# Altium schematic symbol library TC2030-IDC Modified.SchLib: 1 symbol
Pins are listed as number, name and electrical type; pins without a type are passive.

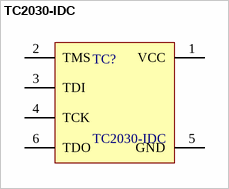
[diagram p0: symbol TC2030-IDC]

## TC2030-IDC
designator TC?
PLUG-OF-NAILS 6-PIN W/ LEGS 8; MF: Tag-Connect LLC; SnapEDA_Link: https://www.snapeda.com/parts/TC2030-IDC/Tag-Connect/view-part/?ref=snap; Package: None; MP: TC2030-IDC; Check_prices: https://www.snapeda.com/parts/TC2030-IDC/Tag-Connect/view-part/?ref=eda; Value: *
footprint *TC2030-IDC
pins: 1 VCC, 2 TMS, 3 TDI, 4 TCK, 5 GND, 6 TDO